# Altium footprint library Telit.PcbLib: 2 footprints
Each footprint in its own frame and in the unit in brackets; x right, y up, seen from the top. Pads: shape width x height; smd on the part's side, far side on the other; paste and mask are expansions set on the pad; w line width, h text height; cw(c..) or ccw(c..) is an arc to the next point about the centre after c.
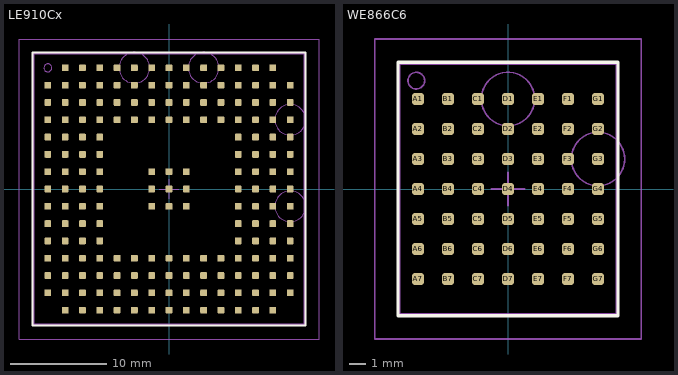
[diagram p0: the footprints below, top view; thin cyan lines are the x and y axes]

## LE910Cx [mm] "LTE Cat.4 150/50 - Cat.1 10/5"
height 2.2
pads (181):
  rrect25% 0.7x0.7 smd: A2(-12.6,10.8) A3(-12.6,9) A4(-12.6,7.2) A5(-12.6,5.4) A6(-12.6,3.6) A7(-12.6,1.8) A8(-12.6,0) A9(-12.6,-1.8) A10(-12.6,-3.6) A11(-12.6,-5.4) A12(-12.6,-7.2) A13(-12.6,-9) A14(-12.6,-10.8) B1(-10.8,12.6) B2(-10.8,10.8) B3(-10.8,9) B4(-10.8,7.2) B5(-10.8,5.4) B6(-10.8,3.6) B7(-10.8,1.8) B8(-10.8,0) B9(-10.8,-1.8) B10(-10.8,-3.6) B11(-10.8,-5.4) B12(-10.8,-7.2) B13(-10.8,-9) B14(-10.8,-10.8) B15(-10.8,-12.6) C1(-9,12.6) C2(-9,10.8) C3(-9,9) C4(-9,7.2) C5(-9,5.4) C6(-9,3.6) C7(-9,1.8) C8(-9,0) C9(-9,-1.8) C10(-9,-3.6) C11(-9,-5.4) C12(-9,-7.2) C13(-9,-9) C14(-9,-10.8) C15(-9,-12.6) D1(-7.2,12.6) D2(-7.2,10.8) D3(-7.2,9) D4(-7.2,7.2) D5(-7.2,5.4) D6(-7.2,3.6) D7(-7.2,1.8) D8(-7.2,0) D9(-7.2,-1.8) D10(-7.2,-3.6) D11(-7.2,-5.4) D12(-7.2,-7.2) D13(-7.2,-9) D14(-7.2,-10.8) D15(-7.2,-12.6) E1(-5.4,12.6) E2(-5.4,10.8) E3(-5.4,9) E4(-5.4,7.2) E12(-5.4,-7.2) E13(-5.4,-9) E14(-5.4,-10.8) E15(-5.4,-12.6) F1(-3.6,12.6) F2(-3.6,10.8) F3(-3.6,9) F4(-3.6,7.2) F12(-3.6,-7.2) F13(-3.6,-9) F14(-3.6,-10.8) F15(-3.6,-12.6) G1(-1.8,12.6) G2(-1.8,10.8) G3(-1.8,9) G4(-1.8,7.2) G7(-1.8,1.8) G8(-1.8,0) G9(-1.8,-1.8) G12(-1.8,-7.2) G13(-1.8,-9) G14(-1.8,-10.8) G15(-1.8,-12.6) H1(0,12.6) H2(0,10.8) H3(0,9) H4(0,7.2) H7(0,1.8) H8(0,0) H9(0,-1.8) H12(0,-7.2) H13(0,-9) H14(0,-10.8) H15(0,-12.6) J1(1.8,12.6) J2(1.8,10.8) J3(1.8,9) J4(1.8,7.2) J7(1.8,1.8) J8(1.8,0) J9(1.8,-1.8) J12(1.8,-7.2) J13(1.8,-9) J14(1.8,-10.8) J15(1.8,-12.6) K1(3.6,12.6) K2(3.6,10.8) K3(3.6,9) K4(3.6,7.2) K12(3.6,-7.2) K13(3.6,-9) K14(3.6,-10.8) K15(3.6,-12.6) L1(5.4,12.6) L2(5.4,10.8) L3(5.4,9) L4(5.4,7.2) L12(5.4,-7.2) L13(5.4,-9) L14(5.4,-10.8) L15(5.4,-12.6) M1(7.2,12.6) M2(7.2,10.8) M3(7.2,9) M4(7.2,7.2) M5(7.2,5.4) M6(7.2,3.6) M7(7.2,1.8) M8(7.2,0) M9(7.2,-1.8) M10(7.2,-3.6) M11(7.2,-5.4) M12(7.2,-7.2) M13(7.2,-9) M14(7.2,-10.8) M15(7.2,-12.6) N1(9,12.6) N2(9,10.8) N3(9,9) N4(9,7.2) N5(9,5.4) N6(9,3.6) N7(9,1.8) N8(9,0) N9(9,-1.8) N10(9,-3.6) N11(9,-5.4) N12(9,-7.2) N13(9,-9) N14(9,-10.8) N15(9,-12.6) P1(10.8,12.6) P2(10.8,10.8) P3(10.8,9) P4(10.8,7.2) P5(10.8,5.4) P6(10.8,3.6) P7(10.8,1.8) P8(10.8,0) P9(10.8,-1.8) P10(10.8,-3.6) P11(10.8,-5.4) P12(10.8,-7.2) P13(10.8,-9) P14(10.8,-10.8) P15(10.8,-12.6) R2(12.6,10.8) R3(12.6,9) R4(12.6,7.2) R5(12.6,5.4) R6(12.6,3.6) R7(12.6,1.8) R8(12.6,0) R9(12.6,-1.8) R10(12.6,-3.6) R11(12.6,-5.4) R12(12.6,-7.2) R13(12.6,-9) R14(12.6,-10.8)
Top Overlay:
  lines w0.2: -14.2,-14.2 -14.2,14.2 14.2,14.2 14.2,-14.2 -14.2,-14.2
3D Top:
  circle w0.1: c-12.6,12.6 r0.412
  circle w0.1: c-3.6,12.6 r1.6
  circle w0.1: c3.6,12.6 r1.6
  circle w0.1: c12.6,-1.8 r1.6
  circle w0.1: c12.6,7.2 r1.6
  lines w0.2: -14.1,-14.1 -14.1,14.1 14.1,14.1 14.1,-14.1 -14.1,-14.1
  text "KEEPOUT" at -3.9,11.9 h0.1
  text "KEEPOUT" at 3.3,11.9 h0.1
  text "KEEPOUT" at 12.3,6.5 h0.1
  text "KEEPOUT" at 12.3,-2.5 h0.1
Courtyard Top:
  lines w0.1: -1,0 1,0 ; 0,-1 0,1 ; -15.6,-15.6 -15.6,15.6 15.6,15.6 15.6,-15.6 -15.6,-15.6
3D body: height 2.25, standoff 2.2, extent -12.997,12.201 -12.2,12.999
3D body: height 2.2, standoff 0, extent -14.1,-14.1 14.1,14.1

## WE866C6 [mm] "Wi-Fi 802.11 ac (1 x 1) BT/BLE5"
height 2.2
pads (49):
  rrect40% 0.7x0.7 smd: A1(-5.4,5.4) A2(-5.4,3.6) A3(-5.4,1.8) A4(-5.4,0) A5(-5.4,-1.8) A6(-5.4,-3.6) A7(-5.4,-5.4) B1(-3.6,5.4) B2(-3.6,3.6) B3(-3.6,1.8) B4(-3.6,0) B5(-3.6,-1.8) B6(-3.6,-3.6) B7(-3.6,-5.4) C1(-1.8,5.4) C2(-1.8,3.6) C3(-1.8,1.8) C4(-1.8,0) C5(-1.8,-1.8) C6(-1.8,-3.6) C7(-1.8,-5.4) D1(0,5.4) D2(0,3.6) D3(0,1.8) D4(0,0) D5(0,-1.8) D6(0,-3.6) D7(0,-5.4) E1(1.8,5.4) E2(1.8,3.6) E3(1.8,1.8) E4(1.8,0) E5(1.8,-1.8) E6(1.8,-3.6) E7(1.8,-5.4) F1(3.6,5.4) F2(3.6,3.6) F3(3.6,1.8) F4(3.6,0) F5(3.6,-1.8) F6(3.6,-3.6) F7(3.6,-5.4) G1(5.4,5.4) G2(5.4,3.6) G3(5.4,1.8) G4(5.4,0) G5(5.4,-1.8) G6(5.4,-3.6) G7(5.4,-5.4)
Top Overlay:
  lines w0.2: -6.6,-7.6 -6.6,7.6 6.6,7.6 6.6,-7.6 -6.6,-7.6
3D Top:
  circle w0.1: c-5.5,6.5 r0.5
  circle w0.1: c0,5.4 r1.6
  circle w0.1: c5.4,1.8 r1.6
  lines w0.1: -6.5,-7.5 -6.5,7.5 6.5,7.5 6.5,-7.5 -6.5,-7.5
  text "KEEPOUT" at 5.1,1.1 h0.1
  text "KEEPOUT" at -0.3,4.7 h0.1
Courtyard Top:
  lines w0.1: -1,0 1,0 ; 0,-1 0,1 ; -8,-9 -8,9 8,9 8,-9 -8,-9
3D body: height 2.2, standoff 2.15, extent -5.996,6.001 -5,6.999
3D body: height 2.15, standoff 0, extent -6.5,-7.5 6.5,7.5